# Altium integrated library Analog_Devices_Power_Management_Linear_Regulators.IntLib: 441 symbols (part 16 of 23)
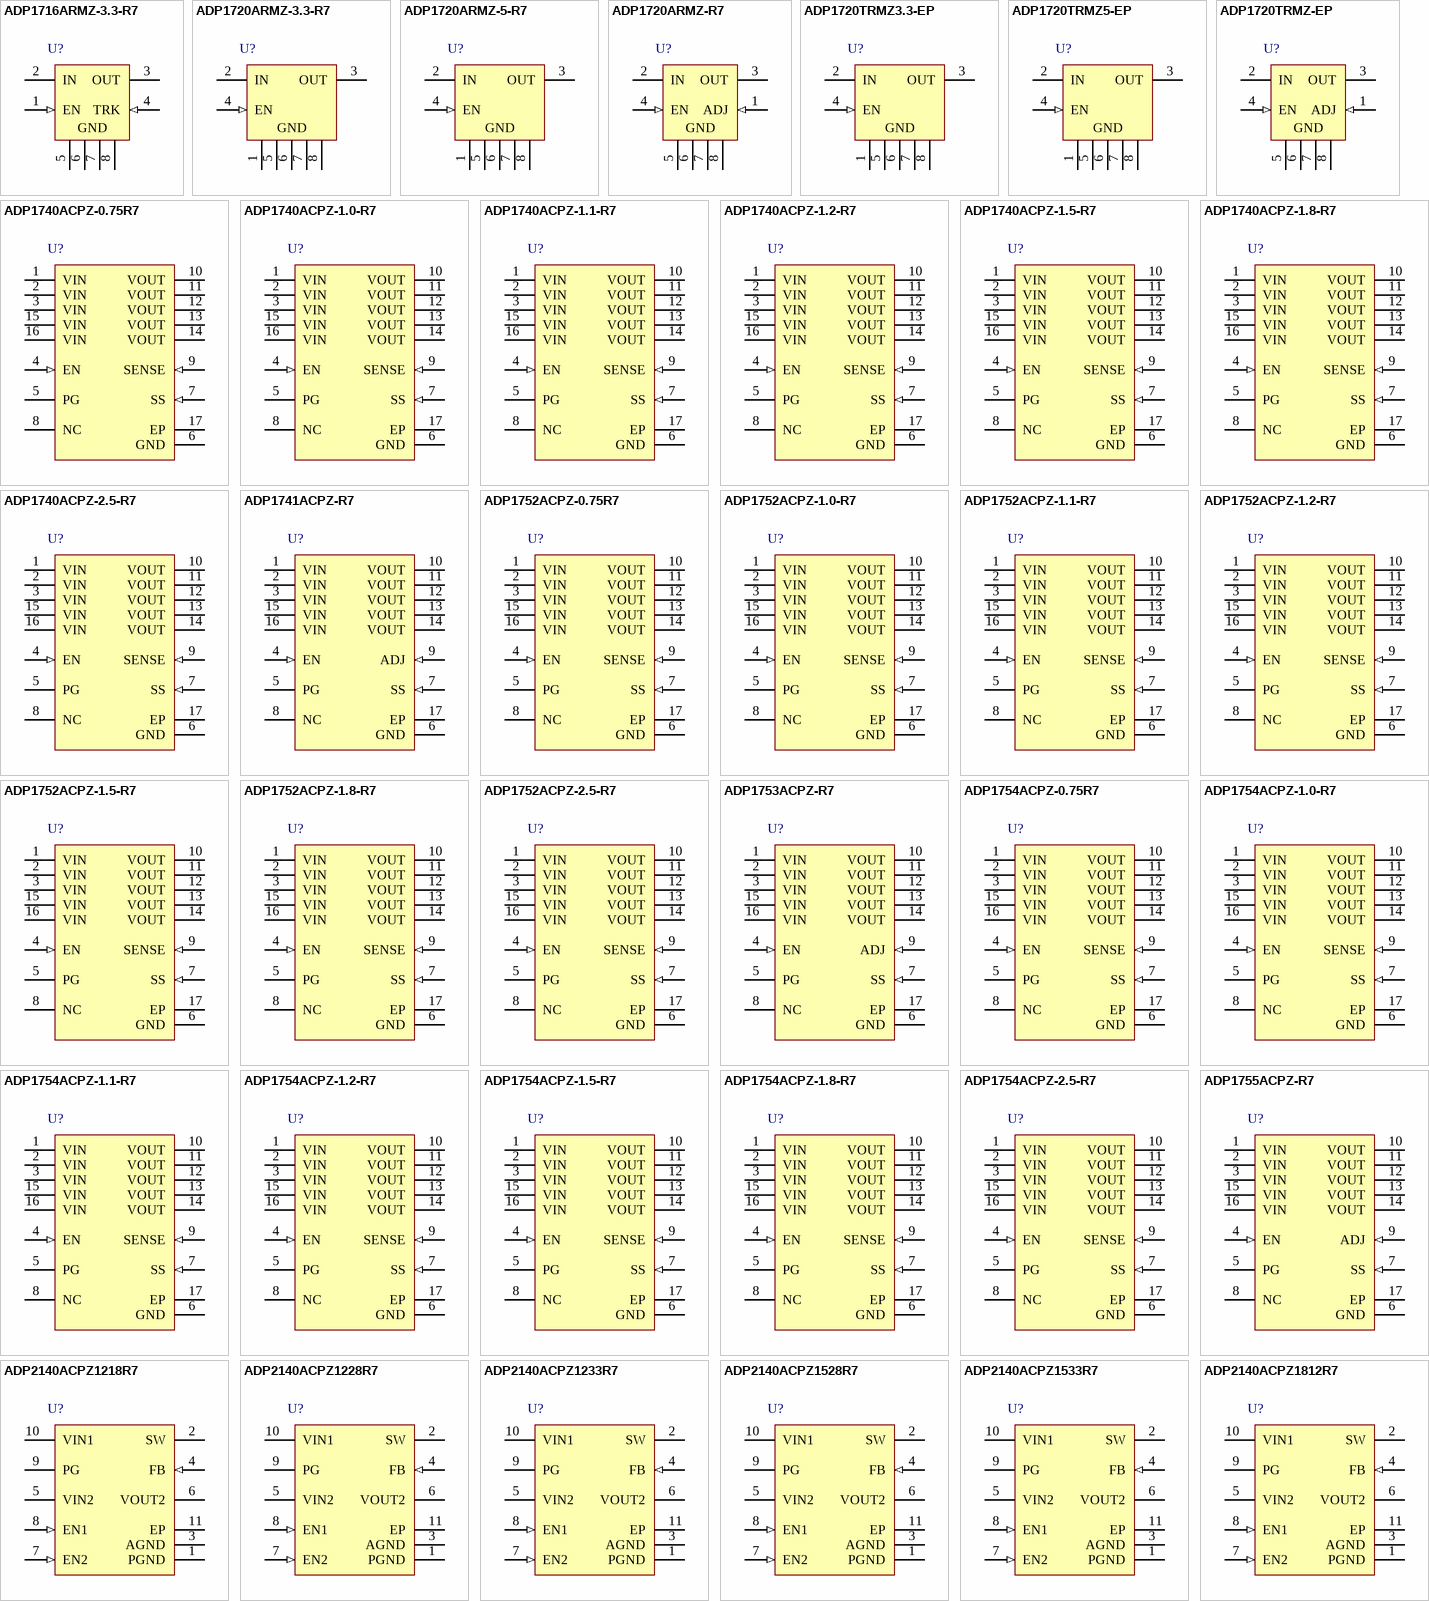
[diagram p26: symbols ADP1716ARMZ-3.3-R7 to ADP2140ACPZ1812R7]

## ADP1754ACPZ-1.1-R7
designator U?
1.2 A, Low VIN, Low Dropout Linear Regulator, 1.6 to 3.6 V Vin, 1.1 V Vout, Industrial, 16-pin QFN (CP-16-4), Reel; Manufacturer: Analog Devices; PartNumber: ADP1754ACPZ-1.1-R7; Iout max: 1.2A; Preset Vout Values (V): 1.1; Supply Current IGND @ Small Load: 90uA; Vin (max) (V): 3.6; Vin (min) (V): 1.6; DatasheetVersion: Rev. D; PackageVersion: 010606-0, 01/2006; PackageReference: CP-16-4; PackageDescription: 16-Pin Lead Frame Chip Scale Package, Body 4 x 4 mm, Pitch 0.65 mm; Supplier 1: Digi-Key; Supplier Part Number 1: ADP1754ACPZ-1.1-R7TR-ND; Supplier 2: Digi-Key; Supplier Part Number 2: ADP1754ACPZ-1.1-R7CT-ND; Supplier 3: Digi-Key; Supplier Part Number 3: ADP1754ACPZ-1.1-R7DKR-ND; Supplier 4: Mouser; Supplier Part Number 4: 584-ADP1754ACPZ1.1R7; Packing: Reel; Mounting Technology: Surface Mount; Code_JEDEC: MO-220-VGGC; ComponentLink1Description: Manufacturer URL; ComponentLink1URL: http://www.analog.com/en/index.html; ComponentLink2Description: Datasheet; ComponentLink2URL: http://www.analog.com/static/imported-files/data_sheets/ADP1754_1755.pdf; ComponentLink3Description: Package Specification; ComponentLink3URL: http://www.analog.com/static/imported-files/packages/46009454504174339653421710019CP_16_4.pdf; ComponentLink4Description: URL Link1; ComponentLink4URL: Product URL:http://www.analog.com/en/ADP1754/productSearch.html
footprint CP-16-4_N (QFN, 16-Leads, Body 4x4mm, Pitch 0.65mm, Thermal Pad 2.1x2.1mm, IPC Medium Density)
footprint CP-16-4_L (QFN, 16-Leads, Body 4x4mm, Pitch 0.65mm, Thermal Pad 2.1x2.1mm, IPC High Density)
footprint CP-16-4_M (QFN, 16-Leads, Body 4x4mm, Pitch 0.65mm, Thermal Pad 2.1x2.1mm, IPC Low Density)
pins: 1 VIN (power) "Regulator Input Supply. Bypass VIN to GND with a 4.7 uF or greater capacitor. Note that all five VIN pins must be connected to the source supply.", 2 VIN (power) "Regulator Input Supply. Bypass VIN to GND with a 4.7 uF or greater capacitor. Note that all five VIN pins must be connected to the source supply.", 3 VIN (power) "Regulator Input Supply. Bypass VIN to GND with a 4.7 uF or greater capacitor. Note that all five VIN pins must be connected to the source supply.", 4 EN (in) "Enable Input. Drive EN high to turn on the regulator; drive it low to turn off the regulator. For automatic startup, connect EN to VIN", 5 PG (oc) "Power-Good Output. This open-drain output requires an external pull-up resistor to VIN. If the part is in shutdown mode, current-limit mode, or thermal shutdown, or if it falls below 90% of the nominal output voltage, the PG (See Datasheet)", 6 GND (power) "Ground.", 7 SS (in) "Soft Start Pin. A capacitor connected to this pin determines the soft start time.", 8 NC "Not Connected. No internal connection.", 9 SENSE (in) "Sense Input. This pin measures the actual output voltage at the load and feeds it to the error amplifier. Connect the SENSE pin as close to the load as possible to minimize the effect of IR drop between the regulator output (See Datasheet)", 10 VOUT (power) "Regulated Output Voltage. Bypass VOUT to GND with a 4.7 uF or greater capacitor. Note that all five VOUT pins must be connected to the load", 11 VOUT (power) "Regulated Output Voltage. Bypass VOUT to GND with a 4.7 uF or greater capacitor. Note that all five VOUT pins must be connected to the load", 12 VOUT (power) "Regulated Output Voltage. Bypass VOUT to GND with a 4.7 uF or greater capacitor. Note that all five VOUT pins must be connected to the load", 13 VOUT (power) "Regulated Output Voltage. Bypass VOUT to GND with a 4.7 uF or greater capacitor. Note that all five VOUT pins must be connected to the load", 14 VOUT (power) "Regulated Output Voltage. Bypass VOUT to GND with a 4.7 uF or greater capacitor. Note that all five VOUT pins must be connected to the load", 15 VIN (power) "Regulator Input Supply. Bypass VIN to GND with a 4.7 uF or greater capacitor. Note that all five VIN pins must be connected to the source supply.", 16 VIN (power) "Regulator Input Supply. Bypass VIN to GND with a 4.7 uF or greater capacitor. Note that all five VIN pins must be connected to the source supply.", 17 EP (power) "The exposed pad on the bottom of the LFCSP enhances thermal performance and is electrically connected to GND inside the package. It is recommended that the exposed pad be connected to the ground plane on the board."

## ADP1754ACPZ-1.2-R7
designator U?
1.2 A, Low VIN, Low Dropout Linear Regulator, 1.6 to 3.6 V Vin, 1.2 V Vout, Industrial, 16-pin QFN (CP-16-4), Reel; Manufacturer: Analog Devices; PartNumber: ADP1754ACPZ-1.2-R7; Iout max: 1.2A; Preset Vout Values (V): 1.2; Supply Current IGND @ Small Load: 90uA; Vin (max) (V): 3.6; Vin (min) (V): 1.6; DatasheetVersion: Rev. D; PackageVersion: 010606-0, 01/2006; PackageReference: CP-16-4; PackageDescription: 16-Pin Lead Frame Chip Scale Package, Body 4 x 4 mm, Pitch 0.65 mm; Supplier 1: Digi-Key; Supplier Part Number 1: ADP1754ACPZ-1.2-R7TR-ND; Supplier 2: Digi-Key; Supplier Part Number 2: ADP1754ACPZ-1.2-R7CT-ND; Supplier 3: Digi-Key; Supplier Part Number 3: ADP1754ACPZ-1.2-R7DKR-ND; Supplier 4: Newark; Supplier Part Number 4: 34P3064; Supplier 5: Mouser; Supplier Part Number 5: 584-ADP1754ACPZ1.2R7; Packing: Reel; Mounting Technology: Surface Mount; Code_JEDEC: MO-220-VGGC; ComponentLink1Description: Manufacturer URL; ComponentLink1URL: http://www.analog.com/en/index.html; ComponentLink2Description: Datasheet; ComponentLink2URL: http://www.analog.com/static/imported-files/data_sheets/ADP1754_1755.pdf; ComponentLink3Description: Package Specification; ComponentLink3URL: http://www.analog.com/static/imported-files/packages/46009454504174339653421710019CP_16_4.pdf; ComponentLink4Description: URL Link1; ComponentLink4URL: Product URL:http://www.analog.com/en/ADP1754/productSearch.html
footprint CP-16-4_N (QFN, 16-Leads, Body 4x4mm, Pitch 0.65mm, Thermal Pad 2.1x2.1mm, IPC Medium Density)
footprint CP-16-4_L (QFN, 16-Leads, Body 4x4mm, Pitch 0.65mm, Thermal Pad 2.1x2.1mm, IPC High Density)
footprint CP-16-4_M (QFN, 16-Leads, Body 4x4mm, Pitch 0.65mm, Thermal Pad 2.1x2.1mm, IPC Low Density)
pins: 1 VIN (power) "Regulator Input Supply. Bypass VIN to GND with a 4.7 uF or greater capacitor. Note that all five VIN pins must be connected to the source supply.", 2 VIN (power) "Regulator Input Supply. Bypass VIN to GND with a 4.7 uF or greater capacitor. Note that all five VIN pins must be connected to the source supply.", 3 VIN (power) "Regulator Input Supply. Bypass VIN to GND with a 4.7 uF or greater capacitor. Note that all five VIN pins must be connected to the source supply.", 4 EN (in) "Enable Input. Drive EN high to turn on the regulator; drive it low to turn off the regulator. For automatic startup, connect EN to VIN", 5 PG (oc) "Power-Good Output. This open-drain output requires an external pull-up resistor to VIN. If the part is in shutdown mode, current-limit mode, or thermal shutdown, or if it falls below 90% of the nominal output voltage, the PG (See Datasheet)", 6 GND (power) "Ground.", 7 SS (in) "Soft Start Pin. A capacitor connected to this pin determines the soft start time.", 8 NC "Not Connected. No internal connection.", 9 SENSE (in) "Sense Input. This pin measures the actual output voltage at the load and feeds it to the error amplifier. Connect the SENSE pin as close to the load as possible to minimize the effect of IR drop between the regulator output (See Datasheet)", 10 VOUT (power) "Regulated Output Voltage. Bypass VOUT to GND with a 4.7 uF or greater capacitor. Note that all five VOUT pins must be connected to the load", 11 VOUT (power) "Regulated Output Voltage. Bypass VOUT to GND with a 4.7 uF or greater capacitor. Note that all five VOUT pins must be connected to the load", 12 VOUT (power) "Regulated Output Voltage. Bypass VOUT to GND with a 4.7 uF or greater capacitor. Note that all five VOUT pins must be connected to the load", 13 VOUT (power) "Regulated Output Voltage. Bypass VOUT to GND with a 4.7 uF or greater capacitor. Note that all five VOUT pins must be connected to the load", 14 VOUT (power) "Regulated Output Voltage. Bypass VOUT to GND with a 4.7 uF or greater capacitor. Note that all five VOUT pins must be connected to the load", 15 VIN (power) "Regulator Input Supply. Bypass VIN to GND with a 4.7 uF or greater capacitor. Note that all five VIN pins must be connected to the source supply.", 16 VIN (power) "Regulator Input Supply. Bypass VIN to GND with a 4.7 uF or greater capacitor. Note that all five VIN pins must be connected to the source supply.", 17 EP (power) "The exposed pad on the bottom of the LFCSP enhances thermal performance and is electrically connected to GND inside the package. It is recommended that the exposed pad be connected to the ground plane on the board."

## ADP1754ACPZ-1.5-R7
designator U?
1.2 A, Low VIN, Low Dropout Linear Regulator, 1.6 to 3.6 V Vin, 1.5 V Vout, Industrial, 16-pin QFN (CP-16-4), Reel; Manufacturer: Analog Devices; PartNumber: ADP1754ACPZ-1.5-R7; Iout max: 1.2A; Preset Vout Values (V): 1.5; Supply Current IGND @ Small Load: 90uA; Vin (max) (V): 3.6; Vin (min) (V): 1.6; DatasheetVersion: Rev. D; PackageVersion: 010606-0, 01/2006; PackageReference: CP-16-4; PackageDescription: 16-Pin Lead Frame Chip Scale Package, Body 4 x 4 mm, Pitch 0.65 mm; Supplier 1: Digi-Key; Supplier Part Number 1: ADP1754ACPZ-1.5-R7TR-ND; Supplier 2: Digi-Key; Supplier Part Number 2: ADP1754ACPZ-1.5-R7CT-ND; Supplier 3: Digi-Key; Supplier Part Number 3: ADP1754ACPZ-1.5-R7DKR-ND; Supplier 4: Mouser; Supplier Part Number 4: 584-ADP1754ACPZ1.5R7; Packing: Reel; Mounting Technology: Surface Mount; Code_JEDEC: MO-220-VGGC; ComponentLink1Description: Manufacturer URL; ComponentLink1URL: http://www.analog.com/en/index.html; ComponentLink2Description: Datasheet; ComponentLink2URL: http://www.analog.com/static/imported-files/data_sheets/ADP1754_1755.pdf; ComponentLink3Description: Package Specification; ComponentLink3URL: http://www.analog.com/static/imported-files/packages/46009454504174339653421710019CP_16_4.pdf; ComponentLink4Description: URL Link1; ComponentLink4URL: Product URL:http://www.analog.com/en/ADP1754/productSearch.html
footprint CP-16-4_N (QFN, 16-Leads, Body 4x4mm, Pitch 0.65mm, Thermal Pad 2.1x2.1mm, IPC Medium Density)
footprint CP-16-4_L (QFN, 16-Leads, Body 4x4mm, Pitch 0.65mm, Thermal Pad 2.1x2.1mm, IPC High Density)
footprint CP-16-4_M (QFN, 16-Leads, Body 4x4mm, Pitch 0.65mm, Thermal Pad 2.1x2.1mm, IPC Low Density)
pins: 1 VIN (power) "Regulator Input Supply. Bypass VIN to GND with a 4.7 uF or greater capacitor. Note that all five VIN pins must be connected to the source supply.", 2 VIN (power) "Regulator Input Supply. Bypass VIN to GND with a 4.7 uF or greater capacitor. Note that all five VIN pins must be connected to the source supply.", 3 VIN (power) "Regulator Input Supply. Bypass VIN to GND with a 4.7 uF or greater capacitor. Note that all five VIN pins must be connected to the source supply.", 4 EN (in) "Enable Input. Drive EN high to turn on the regulator; drive it low to turn off the regulator. For automatic startup, connect EN to VIN", 5 PG (oc) "Power-Good Output. This open-drain output requires an external pull-up resistor to VIN. If the part is in shutdown mode, current-limit mode, or thermal shutdown, or if it falls below 90% of the nominal output voltage, the PG (See Datasheet)", 6 GND (power) "Ground.", 7 SS (in) "Soft Start Pin. A capacitor connected to this pin determines the soft start time.", 8 NC "Not Connected. No internal connection.", 9 SENSE (in) "Sense Input. This pin measures the actual output voltage at the load and feeds it to the error amplifier. Connect the SENSE pin as close to the load as possible to minimize the effect of IR drop between the regulator output (See Datasheet)", 10 VOUT (power) "Regulated Output Voltage. Bypass VOUT to GND with a 4.7 uF or greater capacitor. Note that all five VOUT pins must be connected to the load", 11 VOUT (power) "Regulated Output Voltage. Bypass VOUT to GND with a 4.7 uF or greater capacitor. Note that all five VOUT pins must be connected to the load", 12 VOUT (power) "Regulated Output Voltage. Bypass VOUT to GND with a 4.7 uF or greater capacitor. Note that all five VOUT pins must be connected to the load", 13 VOUT (power) "Regulated Output Voltage. Bypass VOUT to GND with a 4.7 uF or greater capacitor. Note that all five VOUT pins must be connected to the load", 14 VOUT (power) "Regulated Output Voltage. Bypass VOUT to GND with a 4.7 uF or greater capacitor. Note that all five VOUT pins must be connected to the load", 15 VIN (power) "Regulator Input Supply. Bypass VIN to GND with a 4.7 uF or greater capacitor. Note that all five VIN pins must be connected to the source supply.", 16 VIN (power) "Regulator Input Supply. Bypass VIN to GND with a 4.7 uF or greater capacitor. Note that all five VIN pins must be connected to the source supply.", 17 EP (power) "The exposed pad on the bottom of the LFCSP enhances thermal performance and is electrically connected to GND inside the package. It is recommended that the exposed pad be connected to the ground plane on the board."

## ADP1754ACPZ-1.8-R7
designator U?
1.2 A, Low VIN, Low Dropout Linear Regulator, 1.6 to 3.6 V Vin, 1.8 V Vout, Industrial, 16-pin QFN (CP-16-4), Reel; Manufacturer: Analog Devices; PartNumber: ADP1754ACPZ-1.8-R7; Iout max: 1.2A; Preset Vout Values (V): 1.8; Supply Current IGND @ Small Load: 90uA; Vin (max) (V): 3.6; Vin (min) (V): 1.6; DatasheetVersion: Rev. D; PackageVersion: 010606-0, 01/2006; PackageReference: CP-16-4; PackageDescription: 16-Pin Lead Frame Chip Scale Package, Body 4 x 4 mm, Pitch 0.65 mm; Supplier 1: Digi-Key; Supplier Part Number 1: ADP1754ACPZ-1.8-R7TR-ND; Supplier 2: Digi-Key; Supplier Part Number 2: ADP1754ACPZ-1.8-R7CT-ND; Supplier 3: Digi-Key; Supplier Part Number 3: ADP1754ACPZ-1.8-R7DKR-ND; Supplier 4: Mouser; Supplier Part Number 4: 584-ADP1754ACPZ1.8R7; Packing: Reel; Mounting Technology: Surface Mount; Code_JEDEC: MO-220-VGGC; ComponentLink1Description: Manufacturer URL; ComponentLink1URL: http://www.analog.com/en/index.html; ComponentLink2Description: Datasheet; ComponentLink2URL: http://www.analog.com/static/imported-files/data_sheets/ADP1754_1755.pdf; ComponentLink3Description: Package Specification; ComponentLink3URL: http://www.analog.com/static/imported-files/packages/46009454504174339653421710019CP_16_4.pdf; ComponentLink4Description: URL Link1; ComponentLink4URL: Product URL:http://www.analog.com/en/ADP1754/productSearch.html
footprint CP-16-4_N (QFN, 16-Leads, Body 4x4mm, Pitch 0.65mm, Thermal Pad 2.1x2.1mm, IPC Medium Density)
footprint CP-16-4_L (QFN, 16-Leads, Body 4x4mm, Pitch 0.65mm, Thermal Pad 2.1x2.1mm, IPC High Density)
footprint CP-16-4_M (QFN, 16-Leads, Body 4x4mm, Pitch 0.65mm, Thermal Pad 2.1x2.1mm, IPC Low Density)
pins: 1 VIN (power) "Regulator Input Supply. Bypass VIN to GND with a 4.7 uF or greater capacitor. Note that all five VIN pins must be connected to the source supply.", 2 VIN (power) "Regulator Input Supply. Bypass VIN to GND with a 4.7 uF or greater capacitor. Note that all five VIN pins must be connected to the source supply.", 3 VIN (power) "Regulator Input Supply. Bypass VIN to GND with a 4.7 uF or greater capacitor. Note that all five VIN pins must be connected to the source supply.", 4 EN (in) "Enable Input. Drive EN high to turn on the regulator; drive it low to turn off the regulator. For automatic startup, connect EN to VIN", 5 PG (oc) "Power-Good Output. This open-drain output requires an external pull-up resistor to VIN. If the part is in shutdown mode, current-limit mode, or thermal shutdown, or if it falls below 90% of the nominal output voltage, the PG (See Datasheet)", 6 GND (power) "Ground.", 7 SS (in) "Soft Start Pin. A capacitor connected to this pin determines the soft start time.", 8 NC "Not Connected. No internal connection.", 9 SENSE (in) "Sense Input. This pin measures the actual output voltage at the load and feeds it to the error amplifier. Connect the SENSE pin as close to the load as possible to minimize the effect of IR drop between the regulator output (See Datasheet)", 10 VOUT (power) "Regulated Output Voltage. Bypass VOUT to GND with a 4.7 uF or greater capacitor. Note that all five VOUT pins must be connected to the load", 11 VOUT (power) "Regulated Output Voltage. Bypass VOUT to GND with a 4.7 uF or greater capacitor. Note that all five VOUT pins must be connected to the load", 12 VOUT (power) "Regulated Output Voltage. Bypass VOUT to GND with a 4.7 uF or greater capacitor. Note that all five VOUT pins must be connected to the load", 13 VOUT (power) "Regulated Output Voltage. Bypass VOUT to GND with a 4.7 uF or greater capacitor. Note that all five VOUT pins must be connected to the load", 14 VOUT (power) "Regulated Output Voltage. Bypass VOUT to GND with a 4.7 uF or greater capacitor. Note that all five VOUT pins must be connected to the load", 15 VIN (power) "Regulator Input Supply. Bypass VIN to GND with a 4.7 uF or greater capacitor. Note that all five VIN pins must be connected to the source supply.", 16 VIN (power) "Regulator Input Supply. Bypass VIN to GND with a 4.7 uF or greater capacitor. Note that all five VIN pins must be connected to the source supply.", 17 EP (power) "The exposed pad on the bottom of the LFCSP enhances thermal performance and is electrically connected to GND inside the package. It is recommended that the exposed pad be connected to the ground plane on the board."

## ADP1754ACPZ-2.5-R7
designator U?
1.2 A, Low VIN, Low Dropout Linear Regulator, 1.6 to 3.6 V Vin, 2.5 V Vout, Industrial, 16-pin QFN (CP-16-4), Reel; Manufacturer: Analog Devices; PartNumber: ADP1754ACPZ-2.5-R7; Iout max: 1.2A; Preset Vout Values (V): 2.5; Supply Current IGND @ Small Load: 90uA; Vin (max) (V): 3.6; Vin (min) (V): 1.6; DatasheetVersion: Rev. D; PackageVersion: 010606-0, 01/2006; PackageReference: CP-16-4; PackageDescription: 16-Pin Lead Frame Chip Scale Package, Body 4 x 4 mm, Pitch 0.65 mm; Supplier 1: Digi-Key; Supplier Part Number 1: ADP1754ACPZ-2.5-R7TR-ND; Supplier 2: Digi-Key; Supplier Part Number 2: ADP1754ACPZ-2.5-R7CT-ND; Supplier 3: Digi-Key; Supplier Part Number 3: ADP1754ACPZ-2.5-R7DKR-ND; Supplier 4: Newark; Supplier Part Number 4: 34P3067; Supplier 5: Mouser; Supplier Part Number 5: 584-ADP1754ACPZ2.5R7; Packing: Reel; Mounting Technology: Surface Mount; Code_JEDEC: MO-220-VGGC; ComponentLink1Description: Manufacturer URL; ComponentLink1URL: http://www.analog.com/en/index.html; ComponentLink2Description: Datasheet; ComponentLink2URL: http://www.analog.com/static/imported-files/data_sheets/ADP1754_1755.pdf; ComponentLink3Description: Package Specification; ComponentLink3URL: http://www.analog.com/static/imported-files/packages/46009454504174339653421710019CP_16_4.pdf; ComponentLink4Description: URL Link1; ComponentLink4URL: Product URL:http://www.analog.com/en/ADP1754/productSearch.html
footprint CP-16-4_N (QFN, 16-Leads, Body 4x4mm, Pitch 0.65mm, Thermal Pad 2.1x2.1mm, IPC Medium Density)
footprint CP-16-4_L (QFN, 16-Leads, Body 4x4mm, Pitch 0.65mm, Thermal Pad 2.1x2.1mm, IPC High Density)
footprint CP-16-4_M (QFN, 16-Leads, Body 4x4mm, Pitch 0.65mm, Thermal Pad 2.1x2.1mm, IPC Low Density)
pins: 1 VIN (power) "Regulator Input Supply. Bypass VIN to GND with a 4.7 uF or greater capacitor. Note that all five VIN pins must be connected to the source supply.", 2 VIN (power) "Regulator Input Supply. Bypass VIN to GND with a 4.7 uF or greater capacitor. Note that all five VIN pins must be connected to the source supply.", 3 VIN (power) "Regulator Input Supply. Bypass VIN to GND with a 4.7 uF or greater capacitor. Note that all five VIN pins must be connected to the source supply.", 4 EN (in) "Enable Input. Drive EN high to turn on the regulator; drive it low to turn off the regulator. For automatic startup, connect EN to VIN", 5 PG (oc) "Power-Good Output. This open-drain output requires an external pull-up resistor to VIN. If the part is in shutdown mode, current-limit mode, or thermal shutdown, or if it falls below 90% of the nominal output voltage, the PG (See Datasheet)", 6 GND (power) "Ground.", 7 SS (in) "Soft Start Pin. A capacitor connected to this pin determines the soft start time.", 8 NC "Not Connected. No internal connection.", 9 SENSE (in) "Sense Input. This pin measures the actual output voltage at the load and feeds it to the error amplifier. Connect the SENSE pin as close to the load as possible to minimize the effect of IR drop between the regulator output (See Datasheet)", 10 VOUT (power) "Regulated Output Voltage. Bypass VOUT to GND with a 4.7 uF or greater capacitor. Note that all five VOUT pins must be connected to the load", 11 VOUT (power) "Regulated Output Voltage. Bypass VOUT to GND with a 4.7 uF or greater capacitor. Note that all five VOUT pins must be connected to the load", 12 VOUT (power) "Regulated Output Voltage. Bypass VOUT to GND with a 4.7 uF or greater capacitor. Note that all five VOUT pins must be connected to the load", 13 VOUT (power) "Regulated Output Voltage. Bypass VOUT to GND with a 4.7 uF or greater capacitor. Note that all five VOUT pins must be connected to the load", 14 VOUT (power) "Regulated Output Voltage. Bypass VOUT to GND with a 4.7 uF or greater capacitor. Note that all five VOUT pins must be connected to the load", 15 VIN (power) "Regulator Input Supply. Bypass VIN to GND with a 4.7 uF or greater capacitor. Note that all five VIN pins must be connected to the source supply.", 16 VIN (power) "Regulator Input Supply. Bypass VIN to GND with a 4.7 uF or greater capacitor. Note that all five VIN pins must be connected to the source supply.", 17 EP (power) "The exposed pad on the bottom of the LFCSP enhances thermal performance and is electrically connected to GND inside the package. It is recommended that the exposed pad be connected to the ground plane on the board."

## ADP1755ACPZ-R7
designator U?
1.2 A, Low VIN, Low Dropout Linear Regulator, 1.6 to 3.6 V Vin, 0.75 to 3 V Vout, Industrial, 16-pin QFN (CP-16-4), Reel; Manufacturer: Analog Devices; PartNumber: ADP1755ACPZ-R7; Iout max: 1.2A; Supply Current IGND @ Small Load: 90uA; Vin (max) (V): 3.6; Vin (min) (V): 1.6; Vout Adjustable Range: 0.75V to 3.3V; DatasheetVersion: Rev. D; PackageVersion: 010606-0, 01/2006; PackageReference: CP-16-4; PackageDescription: 16-Pin Lead Frame Chip Scale Package, Body 4 x 4 mm, Pitch 0.65 mm; Supplier 1: Digi-Key; Supplier Part Number 1: ADP1755ACPZ-R7TR-ND; Supplier 2: Digi-Key; Supplier Part Number 2: ADP1755ACPZ-R7CT-ND; Supplier 3: Digi-Key; Supplier Part Number 3: ADP1755ACPZ-R7DKR-ND; Supplier 4: Farnell; Supplier Part Number 4: 2314147; Supplier 5: Newark; Supplier Part Number 5: 72W4084; Supplier 6: Newark; Supplier Part Number 6: 34P3068; Supplier 7: Mouser; Supplier Part Number 7: 584-ADP1755ACPZ-R7; Packing: Reel; Mounting Technology: Surface Mount; Code_JEDEC: MO-220-VGGC; ComponentLink1Description: Manufacturer URL; ComponentLink1URL: http://www.analog.com/en/index.html; ComponentLink2Description: Datasheet; ComponentLink2URL: http://www.analog.com/static/imported-files/data_sheets/ADP1754_1755.pdf; ComponentLink3Description: Package Specification; ComponentLink3URL: http://www.analog.com/static/imported-files/packages/46009454504174339653421710019CP_16_4.pdf; ComponentLink4Description: URL Link1; ComponentLink4URL: Product URL:http://www.analog.com/en/ADP1755/productSearch.html
footprint CP-16-4_N (QFN, 16-Leads, Body 4x4mm, Pitch 0.65mm, Thermal Pad 2.1x2.1mm, IPC Medium Density)
footprint CP-16-4_L (QFN, 16-Leads, Body 4x4mm, Pitch 0.65mm, Thermal Pad 2.1x2.1mm, IPC High Density)
footprint CP-16-4_M (QFN, 16-Leads, Body 4x4mm, Pitch 0.65mm, Thermal Pad 2.1x2.1mm, IPC Low Density)
pins: 1 VIN (power) "Regulator Input Supply. Bypass VIN to GND with a 4.7 uF or greater capacitor. Note that all five VIN pins must be connected to the source supply.", 2 VIN (power) "Regulator Input Supply. Bypass VIN to GND with a 4.7 uF or greater capacitor. Note that all five VIN pins must be connected to the source supply.", 3 VIN (power) "Regulator Input Supply. Bypass VIN to GND with a 4.7 uF or greater capacitor. Note that all five VIN pins must be connected to the source supply.", 4 EN (in) "Enable Input. Drive EN high to turn on the regulator; drive it low to turn off the regulator. For automatic startup, connect EN to VIN", 5 PG (oc) "Power-Good Output. This open-drain output requires an external pull-up resistor to VIN. If the part is in shutdown mode, current-limit mode, or thermal shutdown, or if it falls below 90% of the nominal output voltage, the PG (See Datasheet)", 6 GND (power) "Ground.", 7 SS (in) "Soft Start Pin. A capacitor connected to this pin determines the soft start time.", 8 NC "Not Connected. No internal connection.", 9 ADJ (in) "Adjust. A resistor divider from VOUT to ADJ sets the output voltage.", 10 VOUT (power) "Regulated Output Voltage. Bypass VOUT to GND with a 4.7 uF or greater capacitor. Note that all five VOUT pins must be connected to the load", 11 VOUT (power) "Regulated Output Voltage. Bypass VOUT to GND with a 4.7 uF or greater capacitor. Note that all five VOUT pins must be connected to the load", 12 VOUT (power) "Regulated Output Voltage. Bypass VOUT to GND with a 4.7 uF or greater capacitor. Note that all five VOUT pins must be connected to the load", 13 VOUT (power) "Regulated Output Voltage. Bypass VOUT to GND with a 4.7 uF or greater capacitor. Note that all five VOUT pins must be connected to the load", 14 VOUT (power) "Regulated Output Voltage. Bypass VOUT to GND with a 4.7 uF or greater capacitor. Note that all five VOUT pins must be connected to the load", 15 VIN (power) "Regulator Input Supply. Bypass VIN to GND with a 4.7 uF or greater capacitor. Note that all five VIN pins must be connected to the source supply.", 16 VIN (power) "Regulator Input Supply. Bypass VIN to GND with a 4.7 uF or greater capacitor. Note that all five VIN pins must be connected to the source supply.", 17 EP (power) "The exposed pad on the bottom of the LFCSP enhances thermal performance and is electrically connected to GND inside the package. It is recommended that the exposed pad be connected to the ground plane on the board."

## ADP2140ACPZ1218R7
designator U?
3 MHz, 600 mA, Low Quiescent Current Buck with 300 mA LDO Regulator, 2.3 to 5.5 V Vin, 1.2; 1.8 V Vout, Industrial, 10-pin SON (CP-10-9), Reel; Manufacturer: Analog Devices; PartNumber: ADP2140ACPZ1218R7; Iout max: 300mA; Supply Current IGND @ Small Load: 65uA; Vin (max) (V): 5.5; Vin (min) (V): 1.65; DatasheetVersion: Rev. A; PackageVersion: 02-27-2012-B; PackageReference: CP-10-9; PackageDescription: 10-Pin Lead Frame Chip Scale Package, Body 3 X 3 mm, Pitch 0.5 mm; Supplier 1: Digi-Key; Supplier Part Number 1: ADP2140ACPZ1218R7TR-ND; Supplier 2: Digi-Key; Supplier Part Number 2: ADP2140ACPZ1218R7CT-ND; Supplier 3: Digi-Key; Supplier Part Number 3: ADP2140ACPZ1218R7DKR-ND; Supplier 4: Mouser; Supplier Part Number 4: 584-AP2140ACPZ1218R7; Packing: Reel; Preset Vout Values (V): 1.2; 1.8; Mounting Technology: Surface Mount; ComponentLink1Description: Manufacturer URL; ComponentLink1URL: http://www.analog.com/en/index.html; ComponentLink2Description: Datasheet; ComponentLink2URL: http://www.analog.com/static/imported-files/data_sheets/ADP2140.pdf; ComponentLink3Description: Package Specification; ComponentLink3URL: http://www.analog.com/static/imported-files/packages/CP_10_9.pdf; ComponentLink4Description: URL Link1; ComponentLink4URL: Product URL:http://www.analog.com/en/ADP2140/productSearch.html
footprint ADI-CP-10-9_V (SON, 10-Leads, Body 3x3mm, Pitch 0.5mm, Thermal Pad 2.48x1.74mm)
pins: 1 PGND (power) "Power Ground.", 2 SW (power) "Connection from Power MOSFETs to Inductor.", 3 AGND (power) "Analog Ground.", 4 FB (in) "Feedback from Buck Output.", 5 VIN2 (power) "LDO Input Voltage.", 6 VOUT2 (power) "LDO Output Voltage.", 7 EN2 (in) "Logic 1 to Enable LDO or No Connect for Autosequencing.", 8 EN1 (in) "Logic 1 to Enable Buck or Initiate Sequencing. This is a dual function pin and the state of EN2 determines which function is operational.", 9 PG (oc) "Power Good. Open-drain output. PG is held low until both output voltages (which includes the external inductor and capacitor sensed by the FB pin) rise above 92% of nominal value. PG is held high until both outputs fall (See Datasheet)", 10 VIN1 (power) "Analog Power Input.", 11 EP (power) "Exposed Pad. The exposed pad on the bottom of the LFCSP package enhances thermal performance and is electrically connected to ground inside the package. It is recommended that the exposed pad be connected to the ground plane (See Datasheet)"

## ADP2140ACPZ1228R7
designator U?
3 MHz, 600 mA, Low Quiescent Current Buck with 300 mA LDO Regulator, 2.3 to 5.5 V Vin, 1.2; 2.8 V Vout, Industrial, 10-pin SON (CP-10-9), Reel; Manufacturer: Analog Devices; PartNumber: ADP2140ACPZ1228R7; Iout max: 300mA; Supply Current IGND @ Small Load: 65uA; Vin (max) (V): 5.5; Vin (min) (V): 1.65; DatasheetVersion: Rev. A; PackageVersion: 02-27-2012-B; PackageReference: CP-10-9; PackageDescription: 10-Pin Lead Frame Chip Scale Package, Body 3 X 3 mm, Pitch 0.5 mm; Supplier 1: Digi-Key; Supplier Part Number 1: ADP2140ACPZ1228R7TR-ND; Supplier 2: Digi-Key; Supplier Part Number 2: ADP2140ACPZ1228R7CT-ND; Supplier 3: Digi-Key; Supplier Part Number 3: ADP2140ACPZ1228R7DKR-ND; Supplier 4: Mouser; Supplier Part Number 4: 584-AP2140ACPZ1228R7; Packing: Reel; Preset Vout Values (V): 1.2; 2.8; Mounting Technology: Surface Mount; ComponentLink1Description: Manufacturer URL; ComponentLink1URL: http://www.analog.com/en/index.html; ComponentLink2Description: Datasheet; ComponentLink2URL: http://www.analog.com/static/imported-files/data_sheets/ADP2140.pdf; ComponentLink3Description: Package Specification; ComponentLink3URL: http://www.analog.com/static/imported-files/packages/CP_10_9.pdf; ComponentLink4Description: URL Link1; ComponentLink4URL: Product URL:http://www.analog.com/en/ADP2140/productSearch.html
footprint ADI-CP-10-9_V (SON, 10-Leads, Body 3x3mm, Pitch 0.5mm, Thermal Pad 2.48x1.74mm)
pins: 1 PGND (power) "Power Ground.", 2 SW (power) "Connection from Power MOSFETs to Inductor.", 3 AGND (power) "Analog Ground.", 4 FB (in) "Feedback from Buck Output.", 5 VIN2 (power) "LDO Input Voltage.", 6 VOUT2 (power) "LDO Output Voltage.", 7 EN2 (in) "Logic 1 to Enable LDO or No Connect for Autosequencing.", 8 EN1 (in) "Logic 1 to Enable Buck or Initiate Sequencing. This is a dual function pin and the state of EN2 determines which function is operational.", 9 PG (oc) "Power Good. Open-drain output. PG is held low until both output voltages (which includes the external inductor and capacitor sensed by the FB pin) rise above 92% of nominal value. PG is held high until both outputs fall (See Datasheet)", 10 VIN1 (power) "Analog Power Input.", 11 EP (power) "Exposed Pad. The exposed pad on the bottom of the LFCSP package enhances thermal performance and is electrically connected to ground inside the package. It is recommended that the exposed pad be connected to the ground plane (See Datasheet)"

## ADP2140ACPZ1233R7
designator U?
3 MHz, 600 mA, Low Quiescent Current Buck with 300 mA LDO Regulator, 2.3 to 5.5 V Vin, 1.2; 3.3 V Vout, Industrial, 10-pin SON (CP-10-9), Reel; Manufacturer: Analog Devices; PartNumber: ADP2140ACPZ1233R7; Iout max: 300mA; Supply Current IGND @ Small Load: 65uA; Vin (max) (V): 5.5; Vin (min) (V): 1.65; DatasheetVersion: Rev. A; PackageVersion: 02-27-2012-B; PackageReference: CP-10-9; PackageDescription: 10-Pin Lead Frame Chip Scale Package, Body 3 X 3 mm, Pitch 0.5 mm; Supplier 1: Digi-Key; Supplier Part Number 1: ADP2140ACPZ1233R7TR-ND; Supplier 2: Digi-Key; Supplier Part Number 2: ADP2140ACPZ1233R7CT-ND; Supplier 3: Digi-Key; Supplier Part Number 3: ADP2140ACPZ1233R7DKR-ND; Supplier 4: Farnell; Supplier Part Number 4: 1843656; Supplier 5: Newark; Supplier Part Number 5: 12T2990; Supplier 6: Mouser; Supplier Part Number 6: 584-AP2140ACPZ1233R7; Packing: Reel; Preset Vout Values (V): 1.2; 3.3; Mounting Technology: Surface Mount; ComponentLink1Description: Manufacturer URL; ComponentLink1URL: http://www.analog.com/en/index.html; ComponentLink2Description: Datasheet; ComponentLink2URL: http://www.analog.com/static/imported-files/data_sheets/ADP2140.pdf; ComponentLink3Description: Package Specification; ComponentLink3URL: http://www.analog.com/static/imported-files/packages/CP_10_9.pdf; ComponentLink4Description: URL Link1; ComponentLink4URL: Product URL:http://www.analog.com/en/ADP2140/productSearch.html
footprint ADI-CP-10-9_V (SON, 10-Leads, Body 3x3mm, Pitch 0.5mm, Thermal Pad 2.48x1.74mm)
pins: 1 PGND (power) "Power Ground.", 2 SW (power) "Connection from Power MOSFETs to Inductor.", 3 AGND (power) "Analog Ground.", 4 FB (in) "Feedback from Buck Output.", 5 VIN2 (power) "LDO Input Voltage.", 6 VOUT2 (power) "LDO Output Voltage.", 7 EN2 (in) "Logic 1 to Enable LDO or No Connect for Autosequencing.", 8 EN1 (in) "Logic 1 to Enable Buck or Initiate Sequencing. This is a dual function pin and the state of EN2 determines which function is operational.", 9 PG (oc) "Power Good. Open-drain output. PG is held low until both output voltages (which includes the external inductor and capacitor sensed by the FB pin) rise above 92% of nominal value. PG is held high until both outputs fall (See Datasheet)", 10 VIN1 (power) "Analog Power Input.", 11 EP (power) "Exposed Pad. The exposed pad on the bottom of the LFCSP package enhances thermal performance and is electrically connected to ground inside the package. It is recommended that the exposed pad be connected to the ground plane (See Datasheet)"

## ADP2140ACPZ1528R7
designator U?
3 MHz, 600 mA, Low Quiescent Current Buck with 300 mA LDO Regulator, 2.3 to 5.5 V Vin, 1.5; 2.8 V Vout, Industrial, 10-pin SON (CP-10-9), Reel; Manufacturer: Analog Devices; PartNumber: ADP2140ACPZ1528R7; Iout max: 300mA; Supply Current IGND @ Small Load: 65uA; Vin (max) (V): 5.5; Vin (min) (V): 1.65; DatasheetVersion: Rev. A; PackageVersion: 02-27-2012-B; PackageReference: CP-10-9; PackageDescription: 10-Pin Lead Frame Chip Scale Package, Body 3 X 3 mm, Pitch 0.5 mm; Supplier 1: Digi-Key; Supplier Part Number 1: ADP2140ACPZ1528R7TR-ND; Supplier 2: Digi-Key; Supplier Part Number 2: ADP2140ACPZ1528R7CT-ND; Supplier 3: Digi-Key; Supplier Part Number 3: ADP2140ACPZ1528R7DKR-ND; Supplier 4: Farnell; Supplier Part Number 4: 1843657; Supplier 5: Newark; Supplier Part Number 5: 12T2991; Supplier 6: Mouser; Supplier Part Number 6: 584-AP2140ACPZ1528R7; Packing: Reel; Preset Vout Values (V): 1.5; 2.8; Mounting Technology: Surface Mount; ComponentLink1Description: Manufacturer URL; ComponentLink1URL: http://www.analog.com/en/index.html; ComponentLink2Description: Datasheet; ComponentLink2URL: http://www.analog.com/static/imported-files/data_sheets/ADP2140.pdf; ComponentLink3Description: Package Specification; ComponentLink3URL: http://www.analog.com/static/imported-files/packages/CP_10_9.pdf; ComponentLink4Description: URL Link1; ComponentLink4URL: Product URL:http://www.analog.com/en/ADP2140/productSearch.html
footprint ADI-CP-10-9_V (SON, 10-Leads, Body 3x3mm, Pitch 0.5mm, Thermal Pad 2.48x1.74mm)
pins: 1 PGND (power) "Power Ground.", 2 SW (power) "Connection from Power MOSFETs to Inductor.", 3 AGND (power) "Analog Ground.", 4 FB (in) "Feedback from Buck Output.", 5 VIN2 (power) "LDO Input Voltage.", 6 VOUT2 (power) "LDO Output Voltage.", 7 EN2 (in) "Logic 1 to Enable LDO or No Connect for Autosequencing.", 8 EN1 (in) "Logic 1 to Enable Buck or Initiate Sequencing. This is a dual function pin and the state of EN2 determines which function is operational.", 9 PG (oc) "Power Good. Open-drain output. PG is held low until both output voltages (which includes the external inductor and capacitor sensed by the FB pin) rise above 92% of nominal value. PG is held high until both outputs fall (See Datasheet)", 10 VIN1 (power) "Analog Power Input.", 11 EP (power) "Exposed Pad. The exposed pad on the bottom of the LFCSP package enhances thermal performance and is electrically connected to ground inside the package. It is recommended that the exposed pad be connected to the ground plane (See Datasheet)"

## ADP2140ACPZ1533R7
designator U?
3 MHz, 600 mA, Low Quiescent Current Buck with 300 mA LDO Regulator, 2.3 to 5.5 V Vin, 1.5; 3.3 V Vout, Industrial, 10-pin SON (CP-10-9), Reel; Manufacturer: Analog Devices; PartNumber: ADP2140ACPZ1533R7; Iout max: 300mA; Supply Current IGND @ Small Load: 65uA; Vin (max) (V): 5.5; Vin (min) (V): 1.65; DatasheetVersion: Rev. A; PackageVersion: 02-27-2012-B; PackageReference: CP-10-9; PackageDescription: 10-Pin Lead Frame Chip Scale Package, Body 3 X 3 mm, Pitch 0.5 mm; Supplier 1: Digi-Key; Supplier Part Number 1: ADP2140ACPZ1533R7TR-ND; Supplier 2: Digi-Key; Supplier Part Number 2: ADP2140ACPZ1533R7CT-ND; Supplier 3: Digi-Key; Supplier Part Number 3: ADP2140ACPZ1533R7DKR-ND; Supplier 4: Mouser; Supplier Part Number 4: 584-AP2140ACPZ1533R7; Packing: Reel; Preset Vout Values (V): 1.5; 3.3; Mounting Technology: Surface Mount; ComponentLink1Description: Manufacturer URL; ComponentLink1URL: http://www.analog.com/en/index.html; ComponentLink2Description: Datasheet; ComponentLink2URL: http://www.analog.com/static/imported-files/data_sheets/ADP2140.pdf; ComponentLink3Description: Package Specification; ComponentLink3URL: http://www.analog.com/static/imported-files/packages/CP_10_9.pdf; ComponentLink4Description: URL Link1; ComponentLink4URL: Product URL:http://www.analog.com/en/ADP2140/productSearch.html
footprint ADI-CP-10-9_V (SON, 10-Leads, Body 3x3mm, Pitch 0.5mm, Thermal Pad 2.48x1.74mm)
pins: 1 PGND (power) "Power Ground.", 2 SW (power) "Connection from Power MOSFETs to Inductor.", 3 AGND (power) "Analog Ground.", 4 FB (in) "Feedback from Buck Output.", 5 VIN2 (power) "LDO Input Voltage.", 6 VOUT2 (power) "LDO Output Voltage.", 7 EN2 (in) "Logic 1 to Enable LDO or No Connect for Autosequencing.", 8 EN1 (in) "Logic 1 to Enable Buck or Initiate Sequencing. This is a dual function pin and the state of EN2 determines which function is operational.", 9 PG (oc) "Power Good. Open-drain output. PG is held low until both output voltages (which includes the external inductor and capacitor sensed by the FB pin) rise above 92% of nominal value. PG is held high until both outputs fall (See Datasheet)", 10 VIN1 (power) "Analog Power Input.", 11 EP (power) "Exposed Pad. The exposed pad on the bottom of the LFCSP package enhances thermal performance and is electrically connected to ground inside the package. It is recommended that the exposed pad be connected to the ground plane (See Datasheet)"

## ADP2140ACPZ1812R7
designator U?
3 MHz, 600 mA, Low Quiescent Current Buck with 300 mA LDO Regulator, 2.3 to 5.5 V Vin, 1.8; 1.2 V Vout, Industrial, 10-pin SON (CP-10-9), Reel; Manufacturer: Analog Devices; PartNumber: ADP2140ACPZ1812R7; Iout max: 300mA; Supply Current IGND @ Small Load: 65uA; Vin (max) (V): 5.5; Vin (min) (V): 1.65; DatasheetVersion: Rev. A; PackageVersion: 02-27-2012-B; PackageReference: CP-10-9; PackageDescription: 10-Pin Lead Frame Chip Scale Package, Body 3 X 3 mm, Pitch 0.5 mm; Supplier 1: Digi-Key; Supplier Part Number 1: ADP2140ACPZ1812R7TR-ND; Supplier 2: Digi-Key; Supplier Part Number 2: ADP2140ACPZ1812R7CT-ND; Supplier 3: Digi-Key; Supplier Part Number 3: ADP2140ACPZ1812R7DKR-ND; Supplier 4: Mouser; Supplier Part Number 4: 584-AP2140ACPZ1812R7; Packing: Reel; Preset Vout Values (V): 1.8; 1.2; Mounting Technology: Surface Mount; ComponentLink1Description: Manufacturer URL; ComponentLink1URL: http://www.analog.com/en/index.html; ComponentLink2Description: Datasheet; ComponentLink2URL: http://www.analog.com/static/imported-files/data_sheets/ADP2140.pdf; ComponentLink3Description: Package Specification; ComponentLink3URL: http://www.analog.com/static/imported-files/packages/CP_10_9.pdf; ComponentLink4Description: URL Link1; ComponentLink4URL: Product URL:http://www.analog.com/en/ADP2140/productSearch.html
footprint ADI-CP-10-9_V (SON, 10-Leads, Body 3x3mm, Pitch 0.5mm, Thermal Pad 2.48x1.74mm)
pins: 1 PGND (power) "Power Ground.", 2 SW (power) "Connection from Power MOSFETs to Inductor.", 3 AGND (power) "Analog Ground.", 4 FB (in) "Feedback from Buck Output.", 5 VIN2 (power) "LDO Input Voltage.", 6 VOUT2 (power) "LDO Output Voltage.", 7 EN2 (in) "Logic 1 to Enable LDO or No Connect for Autosequencing.", 8 EN1 (in) "Logic 1 to Enable Buck or Initiate Sequencing. This is a dual function pin and the state of EN2 determines which function is operational.", 9 PG (oc) "Power Good. Open-drain output. PG is held low until both output voltages (which includes the external inductor and capacitor sensed by the FB pin) rise above 92% of nominal value. PG is held high until both outputs fall (See Datasheet)", 10 VIN1 (power) "Analog Power Input.", 11 EP (power) "Exposed Pad. The exposed pad on the bottom of the LFCSP package enhances thermal performance and is electrically connected to ground inside the package. It is recommended that the exposed pad be connected to the ground plane (See Datasheet)"

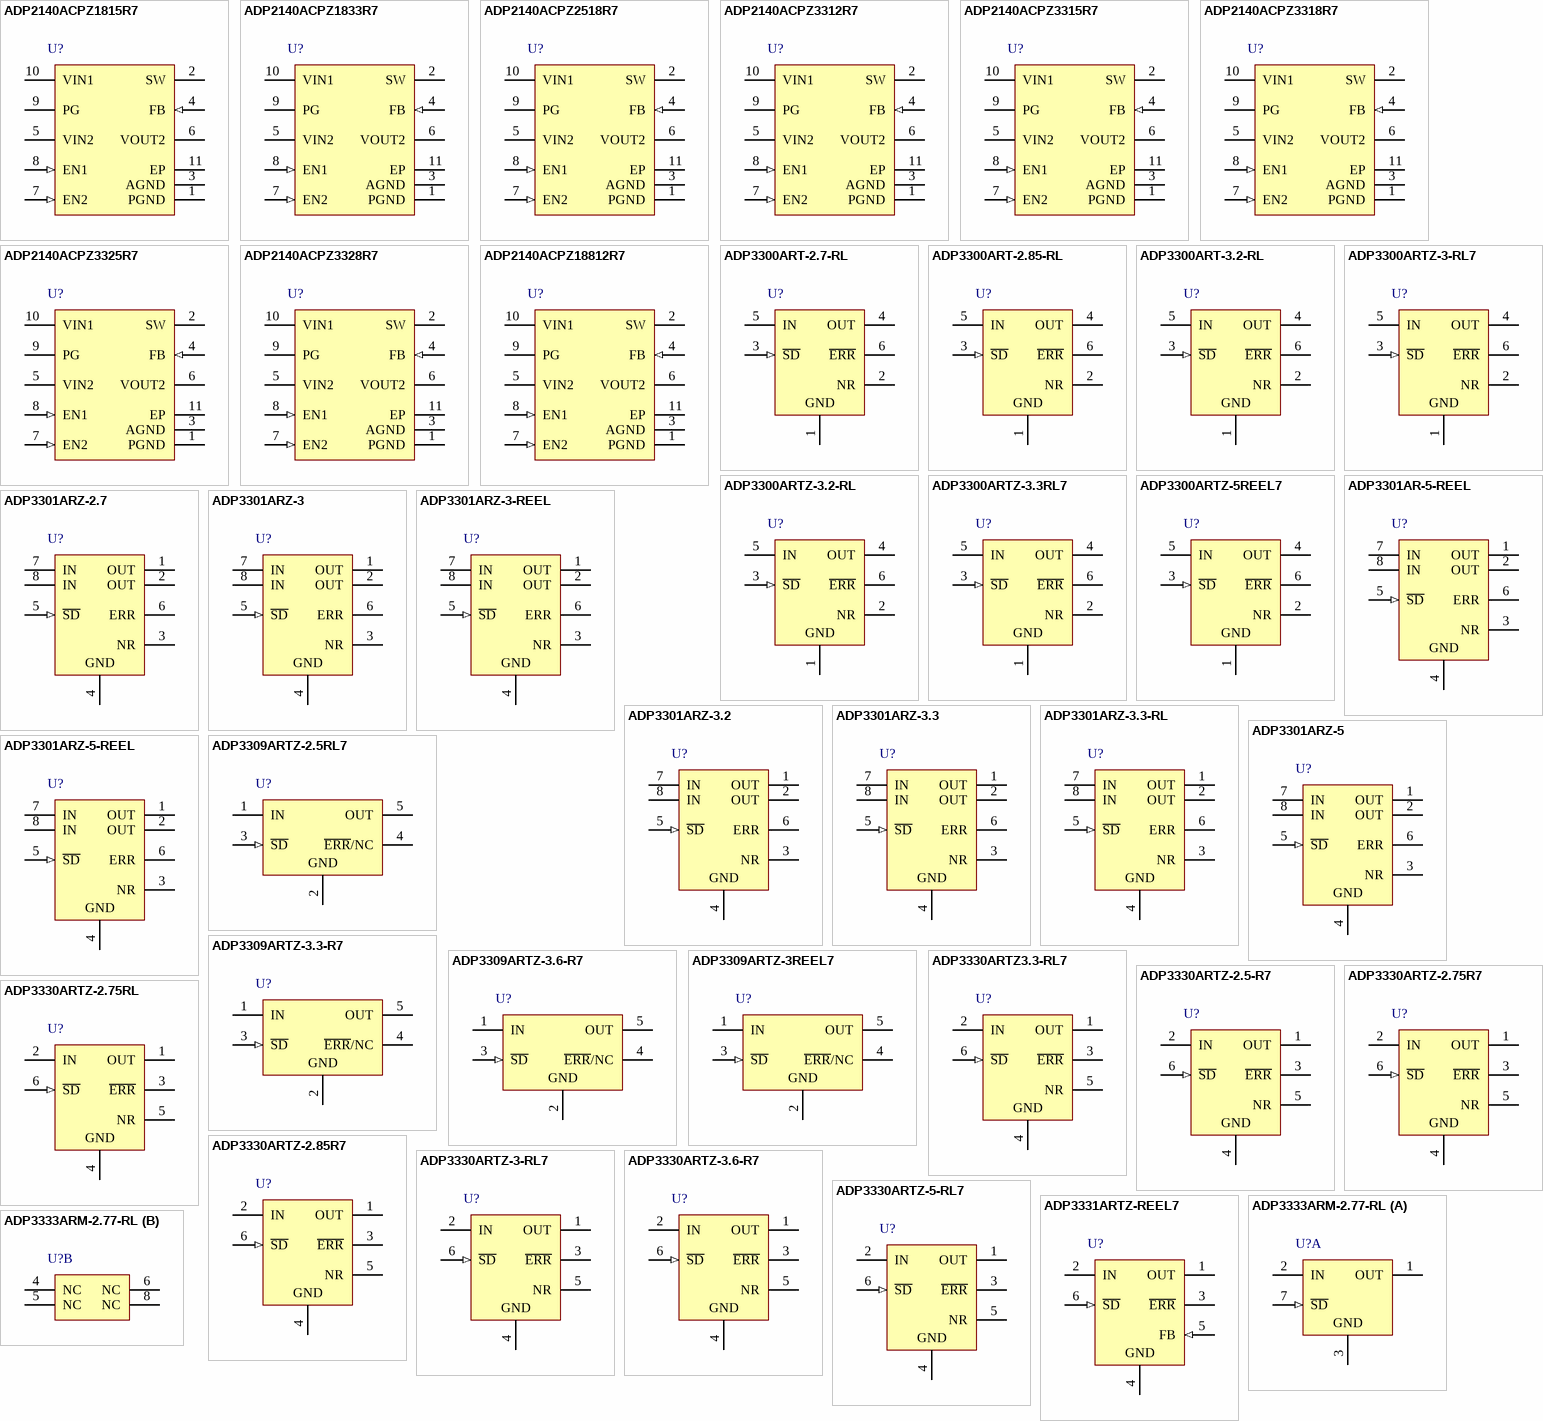
[diagram p8: symbols ADP2140ACPZ1815R7 to ADP3333ARM-2.77-RL]

## ADP2140ACPZ1815R7
designator U?
3 MHz, 600 mA, Low Quiescent Current Buck with 300 mA LDO Regulator, 2.3 to 5.5 V Vin, 1.8; 1.5 V Vout, Industrial, 10-pin SON (CP-10-9), Reel; Manufacturer: Analog Devices; PartNumber: ADP2140ACPZ1815R7; Iout max: 300mA; Supply Current IGND @ Small Load: 65uA; Vin (max) (V): 5.5; Vin (min) (V): 1.65; DatasheetVersion: Rev. A; PackageVersion: 02-27-2012-B; PackageReference: CP-10-9; PackageDescription: 10-Pin Lead Frame Chip Scale Package, Body 3 X 3 mm, Pitch 0.5 mm; Supplier 1: Digi-Key; Supplier Part Number 1: ADP2140ACPZ1815R7TR-ND; Supplier 2: Digi-Key; Supplier Part Number 2: ADP2140ACPZ1815R7CT-ND; Supplier 3: Digi-Key; Supplier Part Number 3: ADP2140ACPZ1815R7DKR-ND; Supplier 4: Mouser; Supplier Part Number 4: 584-AP2140ACPZ1815R7; Packing: Reel; Preset Vout Values (V): 1.8; 1.5; Mounting Technology: Surface Mount; ComponentLink1Description: Manufacturer URL; ComponentLink1URL: http://www.analog.com/en/index.html; ComponentLink2Description: Datasheet; ComponentLink2URL: http://www.analog.com/static/imported-files/data_sheets/ADP2140.pdf; ComponentLink3Description: Package Specification; ComponentLink3URL: http://www.analog.com/static/imported-files/packages/CP_10_9.pdf; ComponentLink4Description: URL Link1; ComponentLink4URL: Product URL:http://www.analog.com/en/ADP2140/productSearch.html
footprint ADI-CP-10-9_V (SON, 10-Leads, Body 3x3mm, Pitch 0.5mm, Thermal Pad 2.48x1.74mm)
pins: 1 PGND (power) "Power Ground.", 2 SW (power) "Connection from Power MOSFETs to Inductor.", 3 AGND (power) "Analog Ground.", 4 FB (in) "Feedback from Buck Output.", 5 VIN2 (power) "LDO Input Voltage.", 6 VOUT2 (power) "LDO Output Voltage.", 7 EN2 (in) "Logic 1 to Enable LDO or No Connect for Autosequencing.", 8 EN1 (in) "Logic 1 to Enable Buck or Initiate Sequencing. This is a dual function pin and the state of EN2 determines which function is operational.", 9 PG (oc) "Power Good. Open-drain output. PG is held low until both output voltages (which includes the external inductor and capacitor sensed by the FB pin) rise above 92% of nominal value. PG is held high until both outputs fall (See Datasheet)", 10 VIN1 (power) "Analog Power Input.", 11 EP (power) "Exposed Pad. The exposed pad on the bottom of the LFCSP package enhances thermal performance and is electrically connected to ground inside the package. It is recommended that the exposed pad be connected to the ground plane (See Datasheet)"

## ADP2140ACPZ1833R7
designator U?
3 MHz, 600 mA, Low Quiescent Current Buck with 300 mA LDO Regulator, 2.3 to 5.5 V Vin, 1.8; 3.3 V Vout, Industrial, 10-pin SON (CP-10-9), Reel; Manufacturer: Analog Devices; PartNumber: ADP2140ACPZ1833R7; Iout max: 300mA; Supply Current IGND @ Small Load: 65uA; Vin (max) (V): 5.5; Vin (min) (V): 1.65; DatasheetVersion: Rev. A; PackageVersion: 02-27-2012-B; PackageReference: CP-10-9; PackageDescription: 10-Pin Lead Frame Chip Scale Package, Body 3 X 3 mm, Pitch 0.5 mm; Supplier 1: Digi-Key; Supplier Part Number 1: ADP2140ACPZ1833R7TR-ND; Supplier 2: Digi-Key; Supplier Part Number 2: ADP2140ACPZ1833R7CT-ND; Supplier 3: Digi-Key; Supplier Part Number 3: ADP2140ACPZ1833R7DKR-ND; Supplier 4: Mouser; Supplier Part Number 4: 584-AP2140ACPZ1833R7; Packing: Reel; Preset Vout Values (V): 1.8; 3.3; Mounting Technology: Surface Mount; ComponentLink1Description: Manufacturer URL; ComponentLink1URL: http://www.analog.com/en/index.html; ComponentLink2Description: Datasheet; ComponentLink2URL: http://www.analog.com/static/imported-files/data_sheets/ADP2140.pdf; ComponentLink3Description: Package Specification; ComponentLink3URL: http://www.analog.com/static/imported-files/packages/CP_10_9.pdf; ComponentLink4Description: URL Link1; ComponentLink4URL: Product URL:http://www.analog.com/en/ADP2140/productSearch.html
footprint ADI-CP-10-9_V (SON, 10-Leads, Body 3x3mm, Pitch 0.5mm, Thermal Pad 2.48x1.74mm)
pins: 1 PGND (power) "Power Ground.", 2 SW (power) "Connection from Power MOSFETs to Inductor.", 3 AGND (power) "Analog Ground.", 4 FB (in) "Feedback from Buck Output.", 5 VIN2 (power) "LDO Input Voltage.", 6 VOUT2 (power) "LDO Output Voltage.", 7 EN2 (in) "Logic 1 to Enable LDO or No Connect for Autosequencing.", 8 EN1 (in) "Logic 1 to Enable Buck or Initiate Sequencing. This is a dual function pin and the state of EN2 determines which function is operational.", 9 PG (oc) "Power Good. Open-drain output. PG is held low until both output voltages (which includes the external inductor and capacitor sensed by the FB pin) rise above 92% of nominal value. PG is held high until both outputs fall (See Datasheet)", 10 VIN1 (power) "Analog Power Input.", 11 EP (power) "Exposed Pad. The exposed pad on the bottom of the LFCSP package enhances thermal performance and is electrically connected to ground inside the package. It is recommended that the exposed pad be connected to the ground plane (See Datasheet)"

## ADP2140ACPZ2518R7
designator U?
3 MHz, 600 mA, Low Quiescent Current Buck with 300 mA LDO Regulator, 2.3 to 5.5 V Vin, 2.5; 1.8 V Vout, Industrial, 10-pin SON (CP-10-9), Reel; Manufacturer: Analog Devices; PartNumber: ADP2140ACPZ2518R7; Iout max: 300mA; Supply Current IGND @ Small Load: 65uA; Vin (max) (V): 5.5; Vin (min) (V): 1.65; DatasheetVersion: Rev. A; PackageVersion: 02-27-2012-B; PackageReference: CP-10-9; PackageDescription: 10-Pin Lead Frame Chip Scale Package, Body 3 X 3 mm, Pitch 0.5 mm; Supplier 1: Digi-Key; Supplier Part Number 1: ADP2140ACPZ2518R7TR-ND; Supplier 2: Digi-Key; Supplier Part Number 2: ADP2140ACPZ2518R7CT-ND; Supplier 3: Digi-Key; Supplier Part Number 3: ADP2140ACPZ2518R7DKR-ND; Supplier 4: Mouser; Supplier Part Number 4: 584-AP2140ACPZ2518R7; Packing: Reel; Preset Vout Values (V): 2.5; 1.8; Mounting Technology: Surface Mount; ComponentLink1Description: Manufacturer URL; ComponentLink1URL: http://www.analog.com/en/index.html; ComponentLink2Description: Datasheet; ComponentLink2URL: http://www.analog.com/static/imported-files/data_sheets/ADP2140.pdf; ComponentLink3Description: Package Specification; ComponentLink3URL: http://www.analog.com/static/imported-files/packages/CP_10_9.pdf; ComponentLink4Description: URL Link1; ComponentLink4URL: Product URL:http://www.analog.com/en/ADP2140/productSearch.html
footprint ADI-CP-10-9_V (SON, 10-Leads, Body 3x3mm, Pitch 0.5mm, Thermal Pad 2.48x1.74mm)
pins: 1 PGND (power) "Power Ground.", 2 SW (power) "Connection from Power MOSFETs to Inductor.", 3 AGND (power) "Analog Ground.", 4 FB (in) "Feedback from Buck Output.", 5 VIN2 (power) "LDO Input Voltage.", 6 VOUT2 (power) "LDO Output Voltage.", 7 EN2 (in) "Logic 1 to Enable LDO or No Connect for Autosequencing.", 8 EN1 (in) "Logic 1 to Enable Buck or Initiate Sequencing. This is a dual function pin and the state of EN2 determines which function is operational.", 9 PG (oc) "Power Good. Open-drain output. PG is held low until both output voltages (which includes the external inductor and capacitor sensed by the FB pin) rise above 92% of nominal value. PG is held high until both outputs fall (See Datasheet)", 10 VIN1 (power) "Analog Power Input.", 11 EP (power) "Exposed Pad. The exposed pad on the bottom of the LFCSP package enhances thermal performance and is electrically connected to ground inside the package. It is recommended that the exposed pad be connected to the ground plane (See Datasheet)"